# EAGLE library part RGB (library p.peter-leds)
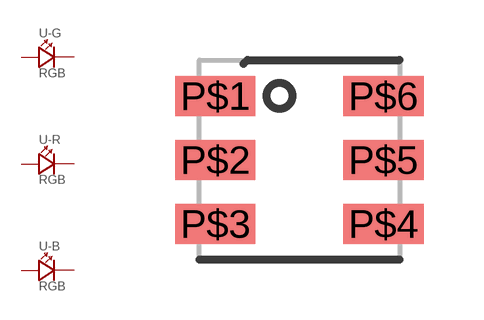
[diagram p1: symbol with the pads of PLCC6; footprint PLCC6]

Designator prefix -; gates -G=LED -R=LED -B=LED

## RGB  [PLCC6]
P$1  -G:A
P$2  -R:A
P$3  -B:A
P$4  -B:C
P$5  -R:C
P$6  -G:C

## Footprint PLCC6 (pad centres in mm)
smd 2 x 1: P$1 -2.1,1.6; P$2 -2.1,0; P$3 -2.1,-1.6; P$4 2.1,-1.6; P$5 2.1,0; P$6 2.1,1.6